# EAGLE library part LCD (library andereBauteile)
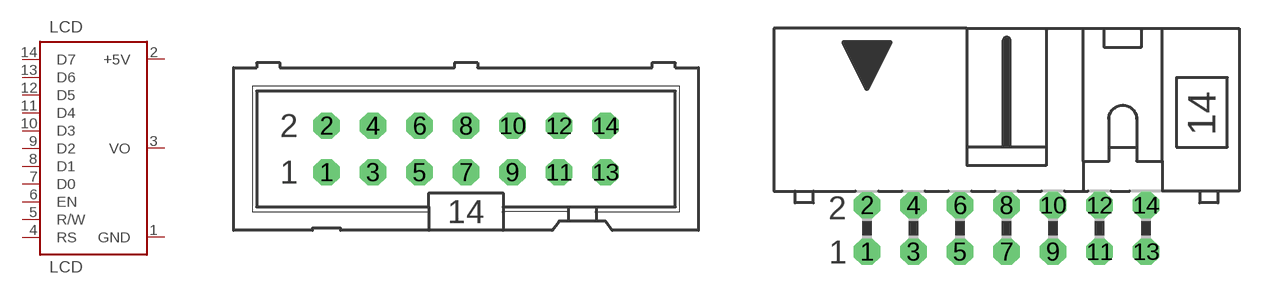
[diagram p23: symbol with the pads of ML14; footprints ML14, ML14L]

Designator prefix LCD

## LCD  [ML14]
1  GND  pwr
2  +5V  pwr
3  VO  pwr
4  RS  in
5  R/W  in
6  EN  in
7  D0
8  D1
9  D2
10  D3
11  D4
12  D5
13  D6
14  D7

## LCDL  [ML14L]
Pads as for ML14

## Footprint ML14 (pad centres in mm)
HARTING
drill 0.914 octagon: 1 -7.62,-1.27; 2 -7.62,1.27; 3 -5.08,-1.27; 4 -5.08,1.27; 5 -2.54,-1.27; 6 -2.54,1.27; 7 0,-1.27; 8 0,1.27; 9 2.54,-1.27; 10 2.54,1.27; 11 5.08,-1.27; 12 5.08,1.27; 13 7.62,-1.27; 14 7.62,1.27

## Footprint ML14L (pad centres in mm)
HARTING
drill 0.914 octagon: 1 -7.62,-1.27; 2 -7.62,1.27; 3 -5.08,-1.27; 4 -5.08,1.27; 5 -2.54,-1.27; 6 -2.54,1.27; 7 0,-1.27; 8 0,1.27; 9 2.54,-1.27; 10 2.54,1.27; 11 5.08,-1.27; 12 5.08,1.27; 13 7.62,-1.27; 14 7.62,1.27